# Altium footprint library SOD-323 _ UMD2 _ SC-90.PcbLib: 1 footprints
Each footprint in its own frame and in the unit in brackets; x right, y up, seen from the top. Pads: shape width x height; smd on the part's side, far side on the other; paste and mask are expansions set on the pad; w line width, h text height; cw(c..) or ccw(c..) is an arc to the next point about the centre after c.
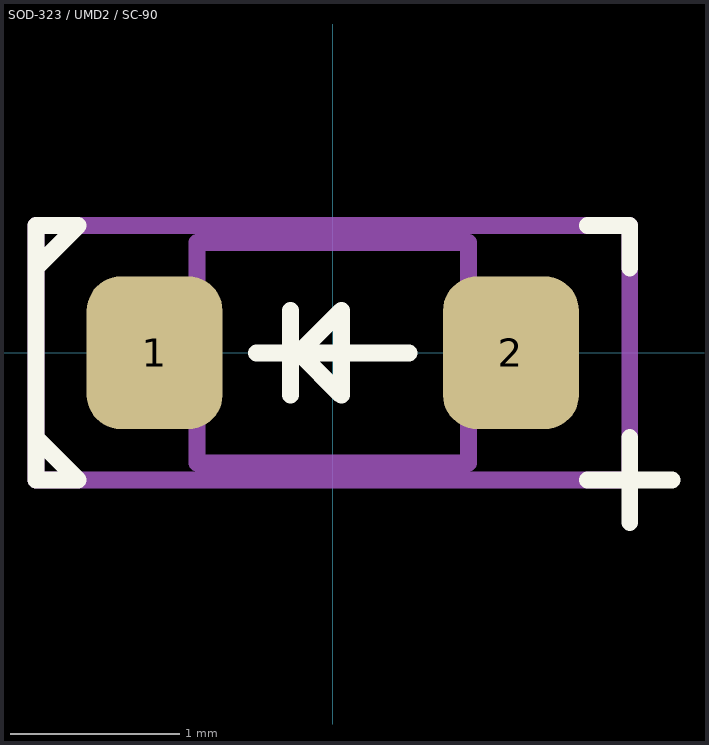
[diagram p0: the footprint, top view; thin cyan lines are the x and y axes]

## SOD-323 / UMD2 / SC-90 [mm]
pads (2):
  rrect50% 0.8x0.9 smd: 1(-1.05,0) 2(1.05,0)
Top Overlay:
  lines w0.1: -0.45,0 0.45,0 ; -0.25,-0.25 -0.25,0.25 ; -0.25,0 -0.2,0 ; 1.5,-0.75 1.75,-0.75 ; 1.5,0.75 1.75,0.75 1.75,0.5 ; 1.75,-1 1.75,-0.75 ; 1.75,-0.5 1.75,-0.75 ; 2,-0.75 1.75,-0.75 ; -1.75,-0.5 -1.75,0.5 ; -1.75,-0.5 -1.5,-0.75 -1.75,-0.75 -1.75,-0.5 ; -1.75,-0.5 -1.75,-0.5 ; -1.75,0.5 -1.5,0.75 -1.75,0.75 -1.75,0.5 ; -1.75,0.5 -1.75,0.5 ; -0.2,0 0.05,-0.25 0.05,0.25 -0.2,0
Mechanical 1:
  lines w0.1: 0.9,-0.15 0.8,-0.15 ; 0.8,-0.15 0.8,0.15 1.2,0.15 1.2,-0.15 0.8,-0.15 ; -1.2,-0.15 -0.8,-0.15 -0.8,0.15 -1.2,0.15 -1.2,-0.15 ; -0.8,-0.65 0.8,-0.65 0.8,0.65 -0.8,0.65 -0.8,-0.65
Mechanical 15:
  lines w0.1: -1.75,-0.75 -1.75,0.75 1.75,0.75 1.75,-0.75 -1.75,-0.75
3D body "User Library-SOD323F-1.STEP": height 1, standoff 0, extent -1.275,-0.686 1.225,0.664
3D body: height 0.15, standoff 0, extent 0.801,-0.149 1.199,0.149
3D body: height 0.15, standoff 0, extent -1.199,-0.149 -0.801,0.149